# EAGLE library part EFM8UB20F64G-QFP48 (library EFM8Midi)
EFM8UB2 - is a multi-purpose 8-bit MCU with USB feature set. <http://www.silabs.com/Support%20Documents/TechnicalDocs/efm8ub2-datasheet.pdf> CPU: 8051 @48MHz, 32 or 64 kB Flash, 2 or 4 kB RAM Communication: SPI, 2 SMBus/I2C, 2 UART, EMIF, USB 2.0 FullSpeed, 10-bit ADC, 40 I/O ports Package: QFP48 7x7mm, 5V tolerant.
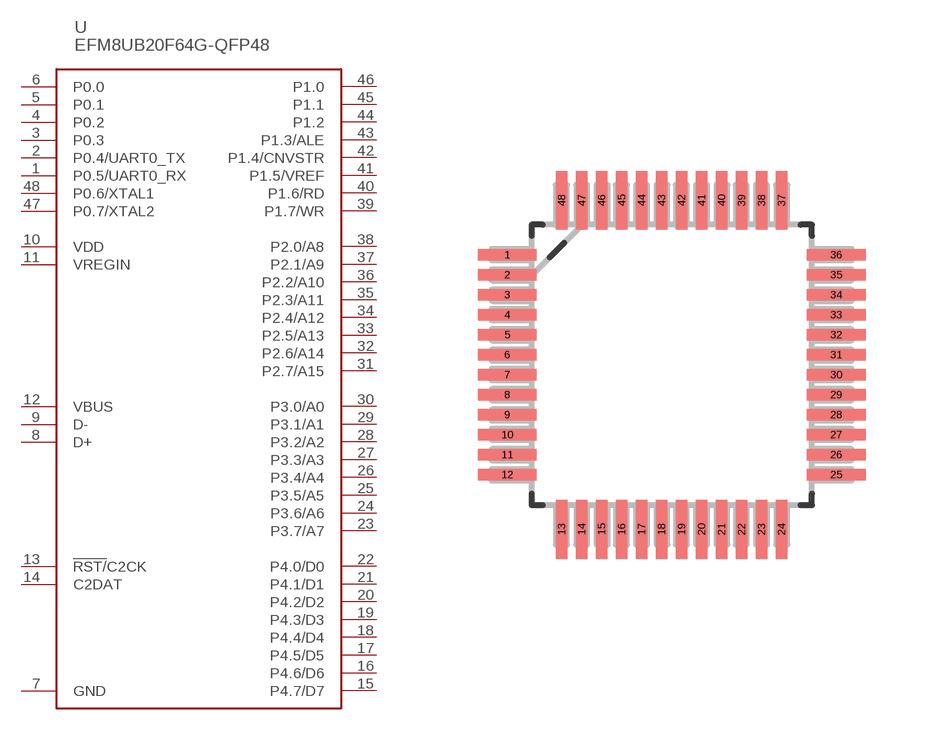
[diagram p0: symbol with the pads of QFP48-7X7-0P5MM; footprint QFP48-7X7-0P5MM]

Designator prefix U

## EFM8UB20F64G-QFP48 (MFG: Silicon Laboratories; PACKAGE: QFP-48)  [QFP48-7X7-0P5MM]
1  P0.5/UART0_RX
2  P0.4/UART0_TX
3  P0.3
4  P0.2
5  P0.1
6  P0.0
7  GND
8  D+
9  D-
10  VDD
11  VREGIN
12  VBUS
13  !RST/!C2CK
14  C2DAT
15  P4.7/D7
16  P4.6/D6
17  P4.5/D5
18  P4.4/D4
19  P4.3/D3
20  P4.2/D2
21  P4.1/D1
22  P4.0/D0
23  P3.7/A7
24  P3.6/A6
25  P3.5/A5
26  P3.4/A4
27  P3.3/A3
28  P3.2/A2
29  P3.1/A1
30  P3.0/A0
31  P2.7/A15
32  P2.6/A14
33  P2.5/A13
34  P2.4/A12
35  P2.3/A11
36  P2.2/A10
37  P2.1/A9
38  P2.0/A8
39  P1.7/WR
40  P1.6/RD
41  P1.5/VREF
42  P1.4/CNVSTR
43  P1.3/ALE
44  P1.2
45  P1.1
46  P1.0
47  P0.7/XTAL2
48  P0.6/XTAL1

## Footprint QFP48-7X7-0P5MM (pad centres in mm)
smd 1.473 x 0.279: 1 -4.115,2.75; 2 -4.115,2.25; 3 -4.115,1.75; 4 -4.115,1.25; 5 -4.115,0.75; 6 -4.115,0.25; 7 -4.115,-0.25; 8 -4.115,-0.75; 9 -4.115,-1.25; 10 -4.115,-1.75; 11 -4.115,-2.25; 12 -4.115,-2.75; 25 4.115,-2.75; 26 4.115,-2.25; 27 4.115,-1.75; 28 4.115,-1.25; 29 4.115,-0.75; 30 4.115,-0.25; 31 4.115,0.25; 32 4.115,0.75; 33 4.115,1.25; 34 4.115,1.75; 35 4.115,2.25; 36 4.115,2.75
smd 0.279 x 1.473: 13 -2.75,-4.115; 14 -2.25,-4.115; 15 -1.75,-4.115; 16 -1.25,-4.115; 17 -0.75,-4.115; 18 -0.25,-4.115; 19 0.25,-4.115; 20 0.75,-4.115; 21 1.25,-4.115; 22 1.75,-4.115; 23 2.25,-4.115; 24 2.75,-4.115; 37 2.75,4.115; 38 2.25,4.115; 39 1.75,4.115; 40 1.25,4.115; 41 0.75,4.115; 42 0.25,4.115; 43 -0.25,4.115; 44 -0.75,4.115; 45 -1.25,4.115; 46 -1.75,4.115; 47 -2.25,4.115; 48 -2.75,4.115